# Altium footprint library trophee-rgb.PcbLib: 21 footprints (part 1 of 2)
Each footprint in its own frame and in the unit in brackets; x right, y up, seen from the top. Pads: shape width x height; smd on the part's side, far side on the other; paste and mask are expansions set on the pad; w line width, h text height; cw(c..) or ccw(c..) is an arc to the next point about the centre after c.
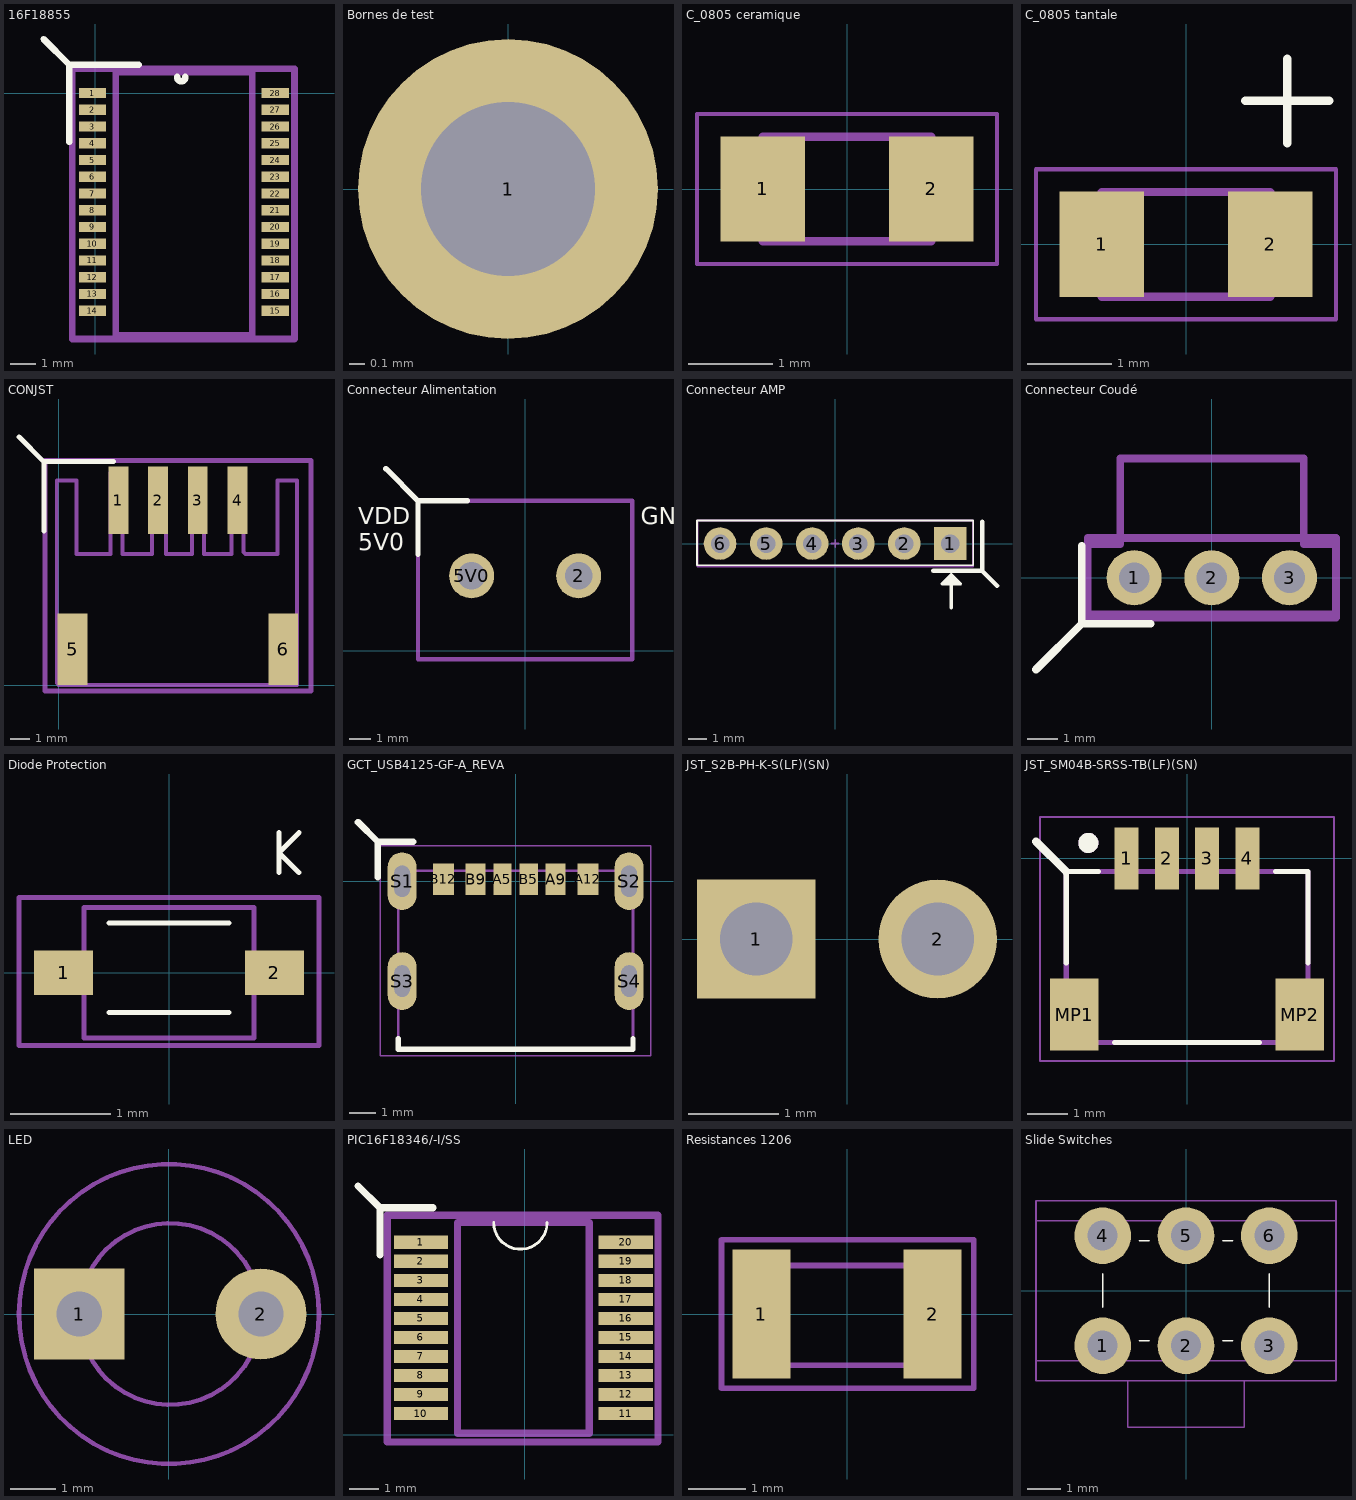
[diagram p0: the footprints below, top view; thin cyan lines are the x and y axes]

## 16F18855 [mm] "PIC 16F18855"
pads (28):
  rect 1.05x0.4 smd: 1(-0.1,0) 2(-0.1,-0.65) 3(-0.1,-1.3) 4(-0.1,-1.95) 5(-0.1,-2.6) 6(-0.1,-3.25) 7(-0.1,-3.9) 8(-0.1,-4.55) 9(-0.1,-5.2) 10(-0.1,-5.85) 11(-0.1,-6.5) 12(-0.1,-7.15) 13(-0.1,-7.8) 14(-0.1,-8.45) 15(7,-8.45) 16(7,-7.8) 17(7,-7.15) 18(7,-6.5) 19(7,-5.85) 20(7,-5.2) 21(7,-4.55) 22(7,-3.9) 23(7,-3.25) 24(7,-2.6) 25(7,-1.95) 26(7,-1.3) 27(7,-0.65) 28(7,0)
Top Overlay:
  lines w0.25: -2,2.1 -1,1.1 ; -1,-1.9 -1,1.1 ; 1.7,1.1 -1,1.1
  lines w0.254: 3.188,0.625 ccw(c3.35,0.625) 3.512,0.625
Top Assembly:
  lines w0.254: 0.8,-9.4 6.1,-9.4 6.1,0.8 0.8,0.8 0.8,-9.4
  text ".Designator" at -1.678,1.576 h1
Top Courtyard:
  lines w0.254: -0.889,-9.55 7.747,-9.55 7.747,0.95 -0.889,0.95 -0.889,-9.55

## Bornes de test [mm]
pads (1):
  round 1.9 hole 1.1: 1(0,0)
Top Assembly:
  text ".Designator" at -4.499,1.749 h1
3D body "19712-4001.SLDPRT": height 9.19, standoff -4.7, extent -1.97,-0.406 1.97,0.406

## C_0805 ceramique [mm] "Condensateur 0805"
pads (2):
  rect 1x1.25 smd: 1(-1,0) 2(1,0)
Top Assembly:
  lines w0.1: -1,-0.62 1,-0.62 1,0.62 -1,0.62 -1,-0.62
  text ".Designator" at -4.599,1.449 h1
Top Courtyard:
  lines w0.05: -1.778,-0.889 1.778,-0.889 1.778,0.889 -1.778,0.889 -1.778,-0.889
3D body "User Library-0805 SMD Capacitor-1.sldprt": height 0.78, standoff 0, extent -1.3,-0.625 1.3,0.625

## C_0805 tantale [mm] "Condensateur 0805"
pads (2):
  rect 1x1.25 smd: 1(-1,0) 2(1,0)
Top Overlay:
  lines w0.1: 0.7,1.7 1.7,1.7 ; 1.2,1.2 1.2,2.2
Top Assembly:
  lines w0.1: -1,-0.62 -1,0.62 1,0.62 1,-0.62 -1,-0.62
  text ".Designator" at -4.7,2.733 h1
Top Courtyard:
  lines w0.05: -1.778,-0.889 -1.778,0.889 1.778,0.889 1.778,-0.889 -1.778,-0.889
3D body "User Library-0805 SMD Capacitor-1.sldprt": height 0.78, standoff 0, extent -1.3,-0.625 1.3,0.625

## CONJST [mm] "Connecteur I2C couché (grand)"
height 2.54
pads (6):
  rect 1x3.4 smd: 1(3,9.3) 2(5,9.3) 3(7,9.3) 4(9,9.3)
  rect 1.5x3.6 smd: 5(0.7,1.8) 6(11.3,1.8)
Top Overlay:
  lines w0.25: -2,12.5 -0.75,11.25 ; -0.75,7.75 -0.75,11.25 ; 2.75,11.25 -0.75,11.25 ; -0.75,11.25 -0.75,11.25 ; -0.75,11.25 -0.75,11.25
Top Assembly:
  lines w0.2: -0.1,0.1 0,0 12,0 12,10.3 11,10.3 11,6.6 9.4,6.6 9.3,6.7 9.3,10.6 8.7,10.6 8.7,6.6 7.3,6.6 7.3,10.7 6.7,10.7 6.7,6.6 5.4,6.6 5.4,10.7 4.7,10.7 4.7,6.6 3.2,6.6 3.2,10.7 2.6,10.7 2.6,9.8 2.6,6.6 0.9,6.6 0.9,10.3 -0.1,10.3 -0.1,1.1 -0.1,0.1
  text ".Designator" at 1.5,12.333 h1
Top Courtyard:
  lines w0.25: -0.7,11.1 -0.7,-0.3 12.7,-0.3 12.7,11.3 12.4,11.3 4,11.3 -0.7,11.3 -0.7,11.1 ; -0.7,11.1 -0.7,11.1
3D body "114020164--3DModel-STEP-740395 (1).STEP": height 5.45, standoff 0, extent 0,0 12,10.3

## Connecteur Alimentation [mm]
pads (2):
  round 2.1 hole 1.3: 2(2.5,3.5) 5V0(-2.5,3.5)
Top Overlay:
  lines w0.25: -6.5,8.5 -5,7 ; -5,4.5 -5,7 ; -2.7,7 -5,7
  text "VDD / 5V0" at -7.8,4.7 h0.8
  text "GND" at 5.4,5.9 h0.8
Top Assembly:
  lines w0.2: -5,-0.4 5,-0.4 5,7 -5,7 -5,-0.4
  text ".Designator" at -5.2,7.833 h1
3D body "691137710002.step": height 11.5, standoff -3.6, extent -5,-0.45 5,7.05

## Connecteur AMP [mm] "Connecteur de programmation"
height 2.54
pads (6):
  rect 1.8x1.8 hole 1.02: 1(6.35,0)
  round 1.8 hole 1.02: 2(3.81,0) 3(1.27,0) 4(-1.27,0) 5(-3.81,0) 6(-6.35,0)
Top Overlay:
  lines w0.1: -7.62,-1.2 7.62,-1.2 7.62,1.27 -7.62,1.27 -7.62,-1.2
  lines w0.2: 6.4,-3.525 6.4,-1.725 ; 5.9,-2.225 6.025,-2.1 6.775,-2.1 6.65,-2.225 6.4,-2.225 ; 5.9,-2.225 6.9,-2.225 ; 5.9,-2.225 6.4,-1.725 ; 6.4,-2.225 6.525,-2.1 6.4,-2.225 ; 6.4,-2.225 6.4,-2.225 ; 6.4,-2.225 6.15,-1.975 6.65,-1.975 6.9,-2.225 ; 6.4,-1.725 6.4,-1.725 ; 6.4,-1.725 6.9,-2.225 ; 6.9,-2.225 6.9,-2.225
  lines w0.25: 5.4,-1.5 8.1,-1.5 ; 7.75,-1.5 8.1,-1.5 ; 8.1,1.2 8.1,-1.5 ; 8.925,-2.325 8.1,-1.5
Mechanical 6:
  lines w0.1: -0.2,0 0.2,0 ; 0,-0.2 0,0.2
Top Assembly:
  lines w0.1: -7.6,-1.27 -7.6,1.27 7.6,1.27 7.6,-1.27 -7.6,-1.27
  text ".Designator" at -5.7,1.833 h1
Top Courtyard:
  lines w0.1: -7.6,-1.27 -7.6,1.27 7.6,1.27 7.6,-1.27 -7.6,-1.27
3D body "PPPC061LFBN-RC.STEP": height 8.51, standoff -3.2, extent -7.874,-1.3 7.874,1.24

## Connecteur Coudé [mm] "pitch 100mil"
pads (3):
  round 1.8 hole 1.005: 1(-2.54,0) 2(0,0) 3(2.54,0)
Top Overlay:
  lines w0.25: -5.75,-3 -4.25,-1.5 ; -4.25,1.05 -4.25,-1.5 ; -2,-1.5 -4.25,-1.5 ; -4.25,-1.5 -4.25,-1.5
Top Assembly:
  lines w0.25: -4.06,-1.2 4.06,-1.2 4.06,1.1 3,1.1 3,3.9 -3,3.9 -3,2 -3,1.1 -4.06,1.1 -4.06,-1.2
  text ".Designator" at -4.9,-2.767 h1
Top Courtyard:
  lines w0.25: -4.06,-1.3 -4.06,1.3 4.06,1.3 4.06,-1.3 -4.06,-1.3
3D body "M20-9750346.step": height 1.27, standoff -4.27, extent -3.82,-0.71 3.8,9.31

## Diode Protection [mm]
pads (2):
  rect 0.59x0.45 smd: 1(-1.055,0) 2(1.055,0)
Top Overlay:
  lines w0.05: -0.6,-0.4 0.6,-0.4 ; -0.6,0.5 0.6,0.5 ; 1.1,1 1.1,1.4 ; 1.3,1 1.1,1.2 1.3,1.4
Top Assembly:
  lines w0.05: -0.85,-0.65 -0.85,0.65 0.85,0.65 0.85,-0.65 -0.85,-0.65
  text ".Designator" at -3.8,2 h1
Top Courtyard:
  lines w0.05: -1.5,-0.725 1.5,-0.725 1.5,0.75 -1.5,0.75 -1.5,-0.725

## GCT_USB4125-GF-A_REVA [mm] "Connecteur USB type C"
pads (10):
  rect 0.7x1.2 smd: A5(-0.5,0.08) B5(0.5,0.08)
  rect 0.76x1.2 smd: A9(1.52,0.08) B9(-1.52,0.08)
  rect 0.8x1.2 smd: A12(2.75,0.08) B12(-2.75,0.08)
  oval 1.1x2.2 hole 0.6 slot 1.2 at 90 deg: S1(-4.32,0) S2(4.32,0) S3(-4.32,-3.8) S4(4.32,-3.8)
Top Overlay:
  lines w0.2: -4.47,-6 -4.47,-6.4 4.47,-6.4 4.47,-6
  lines w0.25: -6,2.25 -5.25,1.5 ; -5.25,0.15 -5.25,0.75 -5.25,1.5 ; -3.9,1.5 -4.5,1.5 -5.25,1.5
Top Assembly:
  lines w0.1: -4.47,-6.4 4.47,-6.4 4.47,0.4 -4.47,0.4 -4.47,-6.4
  text ".Designator" at -4.825,1.833 h1
Top Courtyard:
  lines w0.05: -5.15,-6.65 5.15,-6.65 5.15,1.35 -5.15,1.35 -5.15,-6.65
3D body "Same_Sky_UJC-H-G-SMT-P6-TR.SLDPRT": height 3.18, standoff -0.98, extent -4.44,-6.4 4.5,0.5

## JST_S2B-PH-K-S(LF)(SN) [mm]
height 4.8
pads (2):
  rect 1.308x1.308 / inner round 1.308 / far side rect 1.308x1.308 hole 0.8: 1(-1,0)
  round 1.308 hole 0.8: 2(1,0)
3D body "step_temp.STEP": height 4.8, standoff -3.38, extent -2.95,-6.25 2.95,1.35

## JST_SM04B-SRSS-TB(LF)(SN) [mm] "Connecteur I2C (petit)"
height 2.54
pads (6):
  rect 0.6x1.55 smd: 1(-1.5,0) 2(-0.5,0) 3(0.5,0) 4(1.5,0)
  rect 1.2x1.8 smd: MP1(-2.8,-3.875) MP2(2.8,-3.875)
Top Overlay:
  circle w0.3: c-2.45,0.385 r0.1
  lines w0.127: -3,-2.6 -3,-0.325 -2.2,-0.325 ; -1.8,-4.575 1.8,-4.575 ; 2.2,-0.325 3,-0.325 3,-2.6
  lines w0.2: -3.75,0.425 -3,-0.325
Top Assembly:
  circle w0.3: c-2.45,0.385 r0.1
  lines w0.127: -3,-4.575 3,-4.575 3,-0.325 -3,-0.325 -3,-4.575
  text ".Designator" at -5.1,1.433 h1
Top Courtyard:
  lines w0.05: -3.65,-5.025 3.65,-5.025 3.65,1.025 -3.65,1.025 -3.65,-5.025
3D body "SM04B-SRSS-TB(LF)(SN)--3DModel-STEP-56544.stp": height 3.25, standoff 0.3, extent -3.025,-4.6 2.975,0.35

## LED [mm] "THT"
height 2.54
pads (2):
  rect 2x2 hole 1: 1(-1.975,0)
  round 2 hole 1: 2(2.025,0)
Top Assembly:
  circle w0.1: c0.025,0 r2
  text ".Designator" at -4.684,4.095 h1
Top Courtyard:
  circle w0.1: c0,0 r3.302
3D body "WP7113ID.step": height 9.6, standoff -26, extent -2.5,-2.95 2.95,2.95

## PIC16F18346/-I/SS [mm]
pads (20):
  rect 1.85x0.45 smd: 1(-3.55,6.575) 2(-3.55,5.925) 3(-3.55,5.275) 4(-3.55,4.625) 5(-3.55,3.975) 6(-3.55,3.325) 7(-3.55,2.675) 8(-3.55,2.025) 9(-3.55,1.375) 10(-3.55,0.725) 11(3.45,0.725) 12(3.45,1.375) 13(3.45,2.025) 14(3.45,2.675) 15(3.45,3.325) 16(3.45,3.975) 17(3.45,4.625) 18(3.45,5.275) 19(3.45,5.925) 20(3.45,6.575)
Top Overlay:
  lines w0.1: -1.062,7.25 ccw(c-0.15,7.25) 0.762,7.25
  lines w0.25: -5.7,8.5 -4.95,7.75 ; -4.95,6.15 -4.95,7.25 -4.95,7.75 ; -3.15,7.75 -4.45,7.75 -4.95,7.75
Top Assembly:
  lines w0.25: -2.3,0.05 2.2,0.05 2.2,7.25 -2.3,7.25 -2.3,0.05
  text ".Designator" at -5.175,8.532 h1
Top Courtyard:
  lines w0.25: -4.7,-0.25 4.55,-0.25 4.55,7.5 -4.7,7.5 -4.7,-0.25
3D body "SSOP20_SS_MCH.step": height 2.01, standoff 0, extent -4.129,-0.096 4.075,7.396

## Resistances 1206 [mil] "Chip Resistor, 1206"
height 23.62
pads (2):
  rect 40x89 smd: 1(-59.06,0) 2(59.06,0)
Top Assembly:
  lines w3.94: -67.91,-35.43 65.94,-35.43 65.94,33.46 -67.91,33.46 -67.91,-35.43
  text ".Designator" at -199.4,81.23 h39.37
Top Courtyard:
  lines w3.94: -86.61,-51.18 87.6,-51.18 87.6,51.18 -86.61,51.18 -86.61,-51.18
3D body "STA_RMCF1206_STP.step": height 27.99, standoff 0, extent -67.99,-34.49 67.99,34.49

## Slide Switches [mm] "Sub-Miniature Slide Switches"
pads (6):
  round 1.7 hole 0.9: 1(-2.5,-1.65) 2(0,-1.65) 3(2.5,-1.65) 4(-2.5,1.65) 5(0,1.65) 6(2.5,1.65)
Top Overlay:
  lines w0.05: -2.5,-0.5 -2.5,0.5 ; -1.4,-1.5 -1.1,-1.5 ; -1.4,1.5 -1.1,1.5 ; 1.1,-1.5 1.4,-1.5 ; 1.1,1.5 1.4,1.5 ; 2.5,-0.5 2.5,0.5
Top Assembly:
  lines w0.05: -4.5,-2.1 -4.5,2.1 4.5,2.1 4.5,-2.1 -4.5,-2.1
  text ".Designator" at -4.939,-5.863 h1
Top Courtyard:
  lines w0.05: -1.75,-2.7 -1.75,-4.1 1.75,-4.1 1.75,-2.7 ; -4.5,-2.7 -2.6,-2.7 4.5,-2.7 4.5,2.7 -4.5,2.7 -4.5,-2.7
3D body "JS202011AQN.stp": height 3.22, standoff -3.28, extent -4.5,-3.775 4.5,1.825